# EAGLE library part DMN2400UV (library custom)
N-Channel Dual MOSFET Logic Level 20V 1.33A 480mOhm
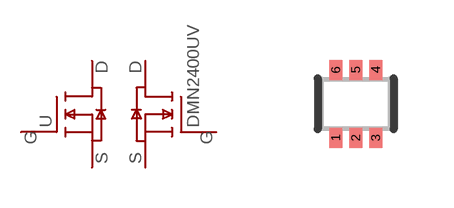
[diagram p19: symbol with the pads of SOT563; footprint SOT563]

Designator prefix -

## DMN2400UV  [SOT563]
1  S2  pas
2  G2  in
3  D2  pas
4  S1  pas
5  G1  in
6  D1  pas

## Footprint SOT563 (pad centres in mm)
smd 0.325 x 0.5: 1 -0.5,-0.85; 2 0,-0.85; 3 0.5,-0.85; 4 0.5,0.85; 5 0,0.85; 6 -0.5,0.85